# Altium schematic symbol library TLV76733DGNR.SchLib: 1 symbol
Pins are listed as number, name and electrical type; pins without a type are passive.

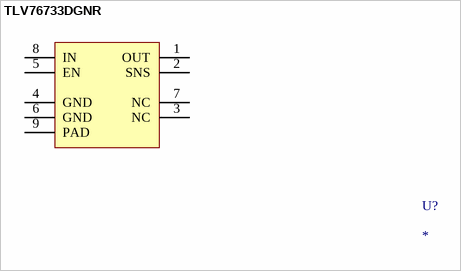
[diagram p0: symbol TLV76733DGNR]

## TLV76733DGNR
designator U?
pins: 1 OUT, 2 SNS, 3 NC, 4 GND, 5 EN, 6 GND, 7 NC, 8 IN, 9 PAD